# Altium schematic symbol library mainboard.SchLib: 73 symbols
Pins are listed as number, name and electrical type; pins without a type are passive.

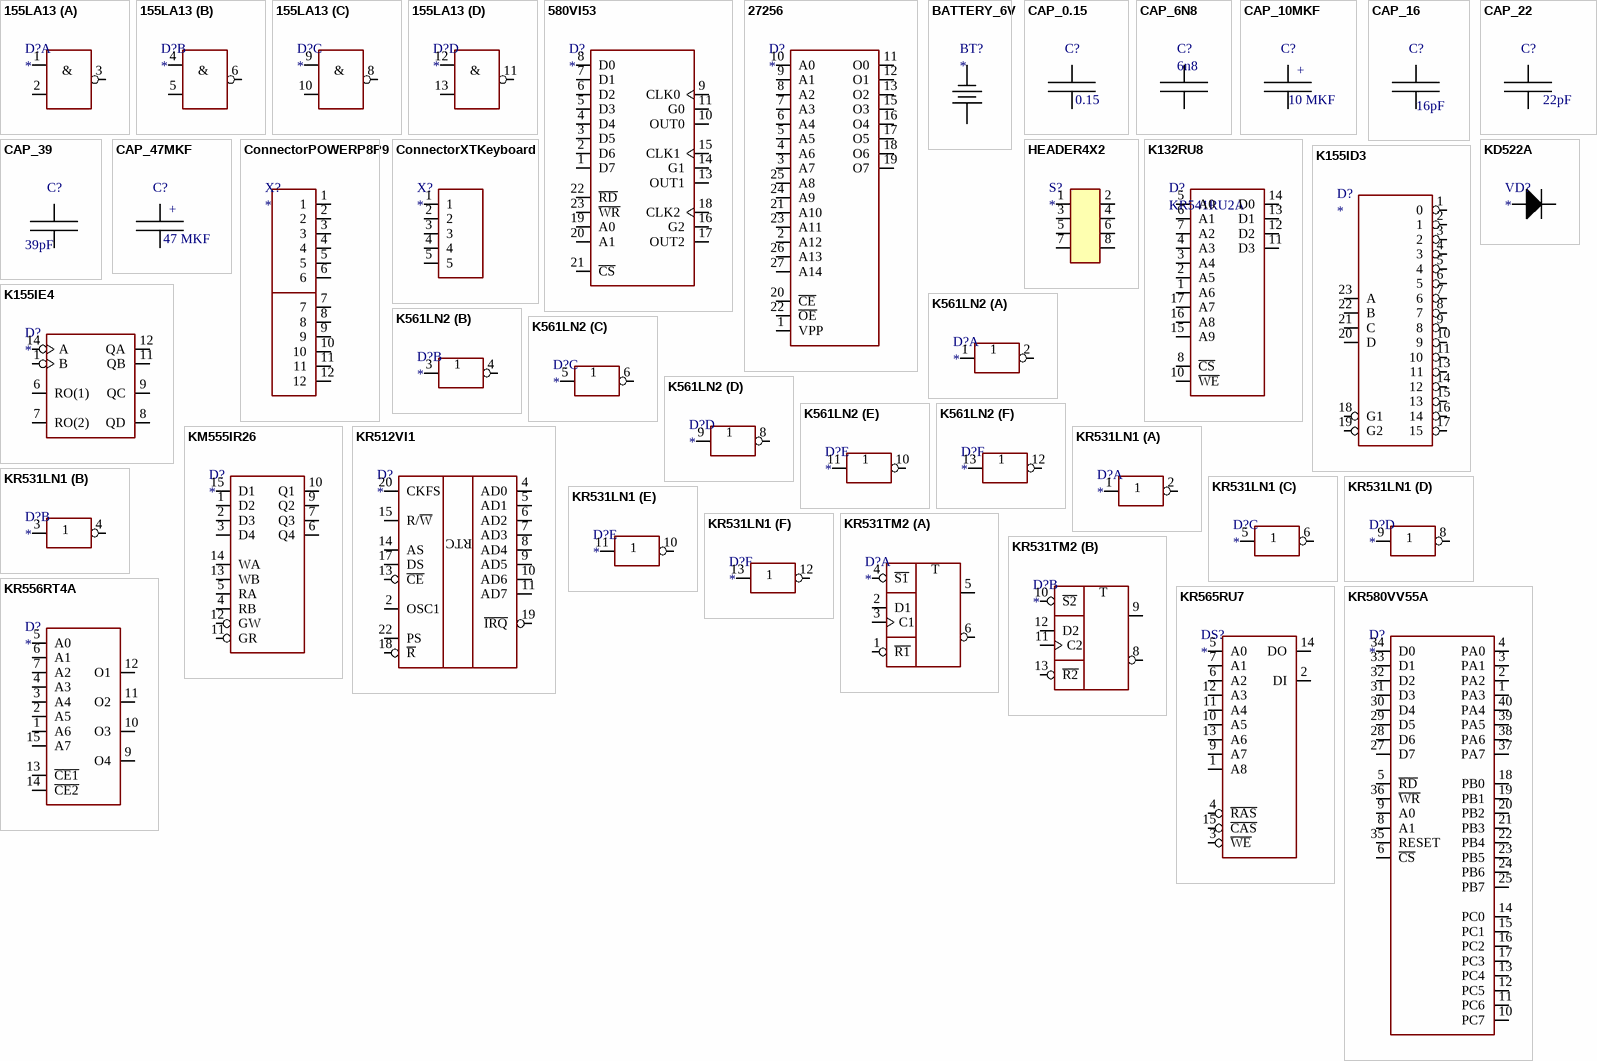
[diagram p0: symbols 155LA13 to KR580VV55A]

## 155LA13
designator D?
footprint DIP14
pins on every part: 7 hidden to GND, 14 hidden to VCC
part A pins: 1, 2, 3
part B pins: 4, 5, 6
part C pins: 8, 9, 10
part D pins: 11, 12, 13
part A text: &
part B text: &
part C text: &
part D text: &

## 580VI53
designator D?
footprint DIP24
pins: 1 D7, 2 D6, 3 D5, 4 D4, 5 D3, 6 D2, 7 D1, 8 D0, 9 CLK0, 10 OUT0, 11 G0, 12 hidden to GND, 13 OUT1, 14 G1, 15 CLK1, 16 G2, 17 OUT2, 18 CLK2, 19 A0, 20 A1, 21 ~{CS}, 22 ~{RD}, 23 ~{WR}, 24 hidden to VCC

## 27256
designator D?
footprint DIP28
pins: 1 VPP, 2 A12, 3 A7, 4 A6, 5 A5, 6 A4, 7 A3, 8 A2, 9 A1, 10 A0, 11 O0, 12 O1, 13 O2, 14 hidden to GND, 15 O3, 16 O4, 17 O5, 18 O6, 19 O7, 20 ~{CE}, 21 A10, 22 ~{OE}, 23 A11, 24 A9, 25 A8, 26 A13, 27 A14, 28 hidden to VCC

## BATTERY_6V
designator BT?
footprint BATTERY_6V
pins: 1 +, 2 -

## CAP_0.15
designator C?  value 0.15  (hidden comment: *)
footprint Cap_5mm
pins: 1, 2

## CAP_6N8
designator C?, comment 6n8
footprint CAP_2.5MM
pins: 1, 2

## CAP_10MKF
designator C?  value 10 MKF  (hidden comment: *)
footprint CAP_20MM_P
pins: 1, 2
text: +

## CAP_16
designator C?, comment 16pF
value: 16pF
footprint Cap_5mm
pins: 1, 2

## CAP_22
designator C?, comment 22pF
value: 22pF
footprint CAP_2.5MM
pins: 1, 2

## CAP_39
designator C?  value 39pF  (hidden comment: *)
footprint CAP_2.5MM
pins: 1, 2

## CAP_47MKF
designator C?  value 47 MKF  (hidden comment: *)
footprint CAP_25MM_P
pins: 1, 2
text: +

## ConnectorPOWERP8P9
designator X?
footprint P8P9_12A
pins: 1, 2, 3, 4, 5, 6, 7, 8, 9, 10, 11, 12

## ConnectorXTKeyboard
designator X?
footprint DN-5J
pins: 1, 2, 3, 4, 5

## HEADER4X2
designator S?
footprint HEADER4X2
pins: 1, 2, 3, 4, 5, 6, 7, 8

## K132RU8
designator D?, comment KR541RU2A
footprint DIP18
pins: 1 A6, 2 A5, 3 A4, 4 A3, 5 A0, 6 A1, 7 A2, 8 ~{CS}, 9 hidden to GND, 10 ~{WE}, 11 D3, 12 D2, 13 D1, 14 D0, 15 A9, 16 A8, 17 A7, 18 hidden to VCC

## K155ID3
designator D?
footprint DIP24
pins: 1 0, 2 1, 3 2, 4 3, 5 4, 6 5, 7 6, 8 7, 9 8, 10 9, 11 10, 12 hidden to GND, 13 11, 14 12, 15 13, 16 14, 17 15, 18 G1, 19 G2, 20 D, 21 C, 22 B, 23 A, 24 hidden to VCC

## K155IE4
designator D?
footprint DIP14
pins: 1 B, 5 hidden to VCC, 6 RO(1), 7 RO(2), 8 QD, 9 QC, 10 hidden to GND, 11 QB, 12 QA, 14 A

## K561LN2
designator D?
footprint DIP14
pins on every part: 7 hidden to GND, 14 hidden to VCC
part A pins: 1, 2
part B pins: 3, 4
part C pins: 5, 6
part D pins: 8, 9
part E pins: 10, 11
part F pins: 12, 13

## KD522A
designator VD?
footprint DIOD_12.5
pins: A, K

## KM555IR26
designator D?
footprint DIP16
pins: 1 D2, 2 D3, 3 D4, 4 RB, 5 RA, 6 Q4, 7 Q3, 8 hidden to GND, 9 Q2, 10 Q1, 11 GR, 12 GW, 13 WB, 14 WA, 15 D1, 16 hidden to VCC

## KR512VI1
designator D?
footprint DIP24
pins: 2 OSC1, 4 AD0, 5 AD1, 6 AD2, 7 AD3, 8 AD4, 9 AD5, 10 AD6, 11 AD7, 12 VSS hidden to GND, 13 ~{CE}, 14 AS, 15 R/~{W}, 17 DS, 18 ~{R}, 19 ~{IRQ}, 20 CKFS, 22 PS, 24 VDD hidden to VCC
text: RTC

## KR531LN1
designator D?
footprint DIP14
pins on every part: 7 hidden to GND, 14 hidden to VCC
part A pins: 1, 2
part B pins: 3, 4
part C pins: 5, 6
part D pins: 8, 9
part E pins: 10, 11
part F pins: 12, 13

## KR531TM2
designator D?
footprint DIP14
pins on every part: 7 hidden to GND, 14 hidden to VCC
part A pins: 1 ~{R1}, 2 D1, 3 C1, 4 ~{S1}, 5 Q1, 6 ~{Q1}
part B pins: 8 ~{Q2}, 9 Q2, 10 ~{S2}, 11 C2, 12 D2, 13 ~{R2}
part A text: T
part B text: T

## KR556RT4A
designator D?
footprint DIP16
pins: 1 A6, 2 A5, 3 A4, 4 A3, 5 A0, 6 A1, 7 A2, 8 hidden to GND, 9 O4, 10 O3, 11 O2, 12 O1, 13 ~{CE1}, 14 ~{CE2}, 15 A7, 16 hidden to VCC

## KR565RU7
designator DS?
footprint DIP16
pins: 1 A8, 2 DI, 3 ~{WE}, 4 ~{RAS}, 5 A0, 6 A2, 7 A1, 8 hidden to VCC, 9 A7, 10 A5, 11 A4, 12 A3, 13 A6, 14 DO, 15 ~{CAS}, 16 hidden to GND

## KR580VV55A
designator D?
footprint DIP40
pins: 1 PA3, 2 PA2, 3 PA1, 4 PA0, 5 ~{RD}, 6 ~{CS}, 7 hidden to GND, 8 A1, 9 A0, 10 PC7, 11 PC6, 12 PC5, 13 PC4, 14 PC0, 15 PC1, 16 PC2, 17 PC3, 18 PB0, 19 PB1, 20 PB2, 21 PB3, 22 PB4, 23 PB5, 24 PB6, 25 PB7, 26 hidden to VCC, 27 D7, 28 D6, 29 D5, 30 D4, 31 D3, 32 D2, 33 D1, 34 D0, 35 RESET, 36 ~{WR}, 37 PA7, 38 PA6, 39 PA5, 40 PA4

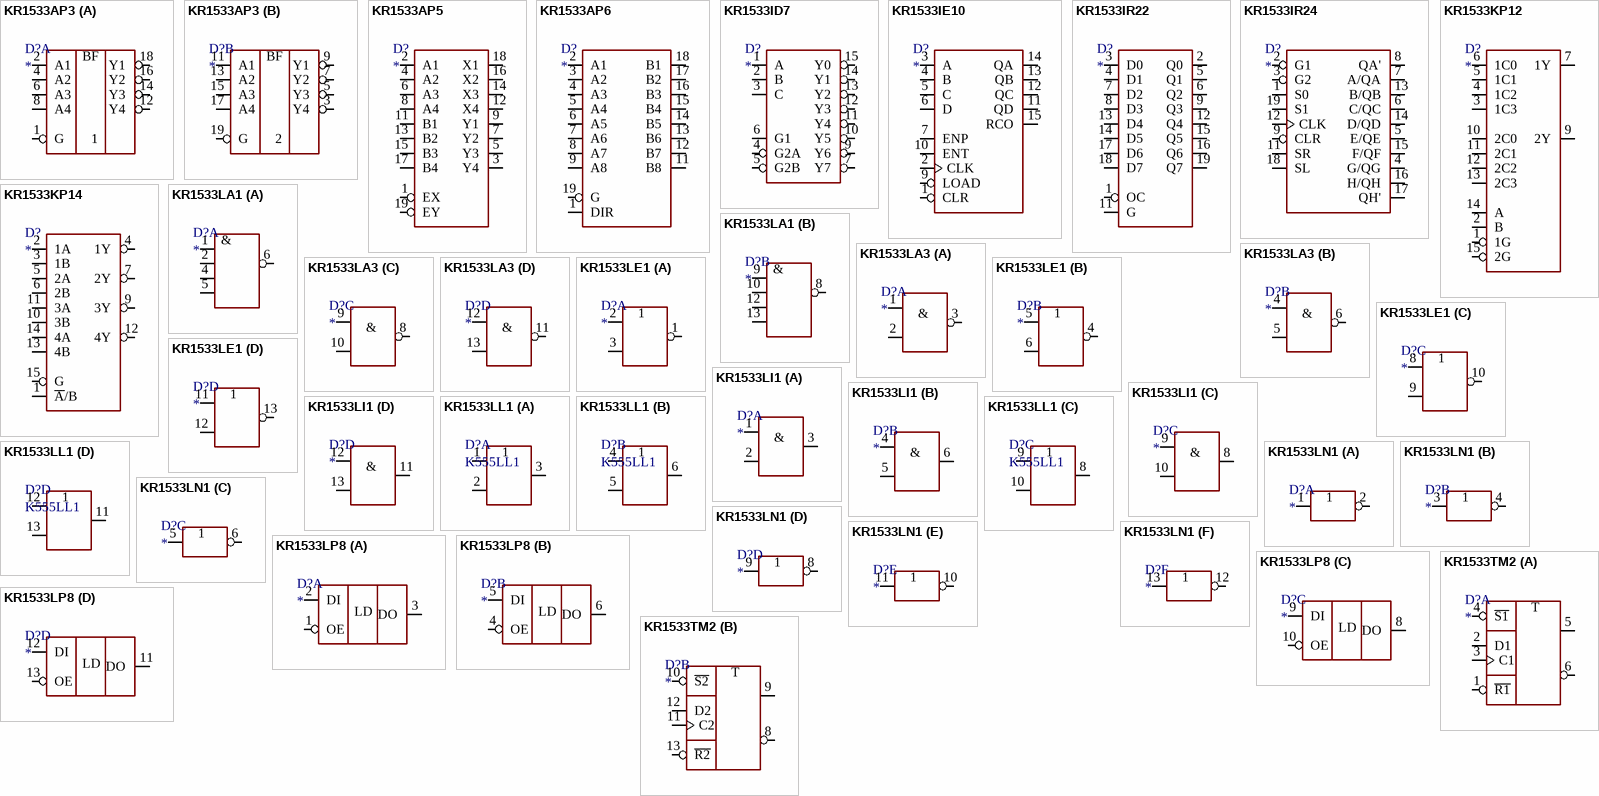
[diagram p1: symbols KR1533AP3 to KR1533TM2]

## KR1533AP3
designator D?
footprint DIP20
pins on every part: 10 hidden to GND, 20 hidden to VCC
part A pins: 1 G, 2 A1, 4 A2, 6 A3, 8 A4, 12 Y4, 14 Y3, 16 Y2, 18 Y1
part B pins: 3 Y4, 5 Y3, 7 Y2, 9 Y1, 11 A1, 13 A2, 15 A3, 17 A4, 19 G
part A text: BF
part B text: BF

## KR1533AP5
designator D?
footprint DIP20
pins: 1 EX, 2 A1, 3 Y4, 4 A2, 5 Y3, 6 A3, 7 Y2, 8 A4, 9 Y1, 10 hidden to GND, 11 B1, 12 X4, 13 B2, 14 X3, 15 B3, 16 X2, 17 B4, 18 X1, 19 EY, 20 hidden to VCC

## KR1533AP6
designator D?
footprint DIP20
pins: 1 DIR, 2 A1, 3 A2, 4 A3, 5 A4, 6 A5, 7 A6, 8 A7, 9 A8, 10 hidden to GND, 11 B8, 12 B7, 13 B6, 14 B5, 15 B4, 16 B3, 17 B2, 18 B1, 19 G, 20 hidden to VCC

## KR1533ID7
designator D?
footprint DIP16
pins: 1 A, 2 B, 3 C, 4 G2A, 5 G2B, 6 G1, 7 Y7, 8 hidden to GND, 9 Y6, 10 Y5, 11 Y4, 12 Y3, 13 Y2, 14 Y1, 15 Y0, 16 hidden to VCC

## KR1533IE10
designator D?
footprint DIP16
pins: 1 CLR, 2 CLK, 3 A, 4 B, 5 C, 6 D, 7 ENP, 8 hidden to GND, 9 LOAD, 10 ENT, 11 QD, 12 QC, 13 QB, 14 QA, 15 RCO, 16 hidden to VCC

## KR1533IR22
designator D?
footprint DIP20
pins: 1 OC, 2 Q0, 3 D0, 4 D1, 5 Q1, 6 Q2, 7 D2, 8 D3, 9 Q3, 10 hidden to GND, 11 G, 12 Q4, 13 D4, 14 D5, 15 Q5, 16 Q6, 17 D6, 18 D7, 19 Q7, 20 hidden to VCC

## KR1533IR24
designator D?
footprint DIP20
pins: 1 S0, 2 G1, 3 G2, 4 G/QG, 5 E/QE, 6 C/QC, 7 A/QA, 8 QA', 9 CLR, 10 hidden to GND, 11 SR, 12 CLK, 13 B/QB, 14 D/QD, 15 F/QF, 16 H/QH, 17 QH', 18 SL, 19 S1, 20 hidden to VCC

## KR1533KP12
designator D?
footprint DIP16
pins: 1 1G, 2 B, 3 1C3, 4 1C2, 5 1C1, 6 1C0, 7 1Y, 8 hidden to GND, 9 2Y, 10 2C0, 11 2C1, 12 2C2, 13 2C3, 14 A, 15 2G, 16 hidden to VCC

## KR1533KP14
designator D?
footprint DIP16
pins: 1 ~{A}/B, 2 1A, 3 1B, 4 1Y, 5 2A, 6 2B, 7 2Y, 8 hidden to GND, 9 3Y, 10 3B, 11 3A, 12 4Y, 13 4B, 14 4A, 15 G, 16 hidden to VCC

## KR1533LA1
designator D?
footprint DIP14
pins on every part: 7 hidden to GND, 14 hidden to VCC
part A pins: 1, 2, 4, 5, 6
part B pins: 8, 9, 10, 12, 13
part A text: &
part B text: &

## KR1533LA3
designator D?
footprint DIP14
pins on every part: 7 hidden to GND, 14 hidden to VCC
part A pins: 1, 2, 3
part B pins: 4, 5, 6
part C pins: 8, 9, 10
part D pins: 11, 12, 13
part A text: &
part B text: &
part C text: &
part D text: &

## KR1533LE1
designator D?
footprint DIP14
pins on every part: 7 hidden to GND, 14 hidden to VCC
part A pins: 1, 2, 3
part B pins: 4, 5, 6
part C pins: 8, 9, 10
part D pins: 11, 12, 13

## KR1533LI1
designator D?
footprint DIP14
pins on every part: 7 hidden to GND, 14 hidden to VCC
part A pins: 1, 2, 3
part B pins: 4, 5, 6
part C pins: 8, 9, 10
part D pins: 11, 12, 13
part A text: &
part B text: &
part C text: &
part D text: &

## KR1533LL1
designator D?, comment K555LL1
footprint DIP14
pins on every part: 7 hidden to GND, 14 hidden to VCC
part A pins: 1, 2, 3
part B pins: 4, 5, 6
part C pins: 8, 9, 10
part D pins: 11, 12, 13

## KR1533LN1
designator D?
footprint DIP14
pins on every part: 7 hidden to GND, 14 hidden to VCC
part A pins: 1, 2
part B pins: 3, 4
part C pins: 5, 6
part D pins: 8, 9
part E pins: 10, 11
part F pins: 12, 13

## KR1533LP8
designator D?
footprint DIP14
pins on every part: 7 hidden to GND, 14 hidden to VCC
part A pins: 1 OE, 2 DI, 3 DO
part B pins: 4 OE, 5 DI, 6 DO
part C pins: 8 DO, 9 DI, 10 OE
part D pins: 11 DO, 12 DI, 13 OE
part A text: LD
part B text: LD
part C text: LD
part D text: LD

## KR1533TM2
designator D?
footprint DIP14
pins on every part: 7 hidden to GND, 14 hidden to VCC
part A pins: 1 ~{R1}, 2 D1, 3 C1, 4 ~{S1}, 5 Q1, 6 ~{Q1}
part B pins: 8 ~{Q2}, 9 Q2, 10 ~{S2}, 11 C2, 12 D2, 13 ~{R2}
part A text: T
part B text: T

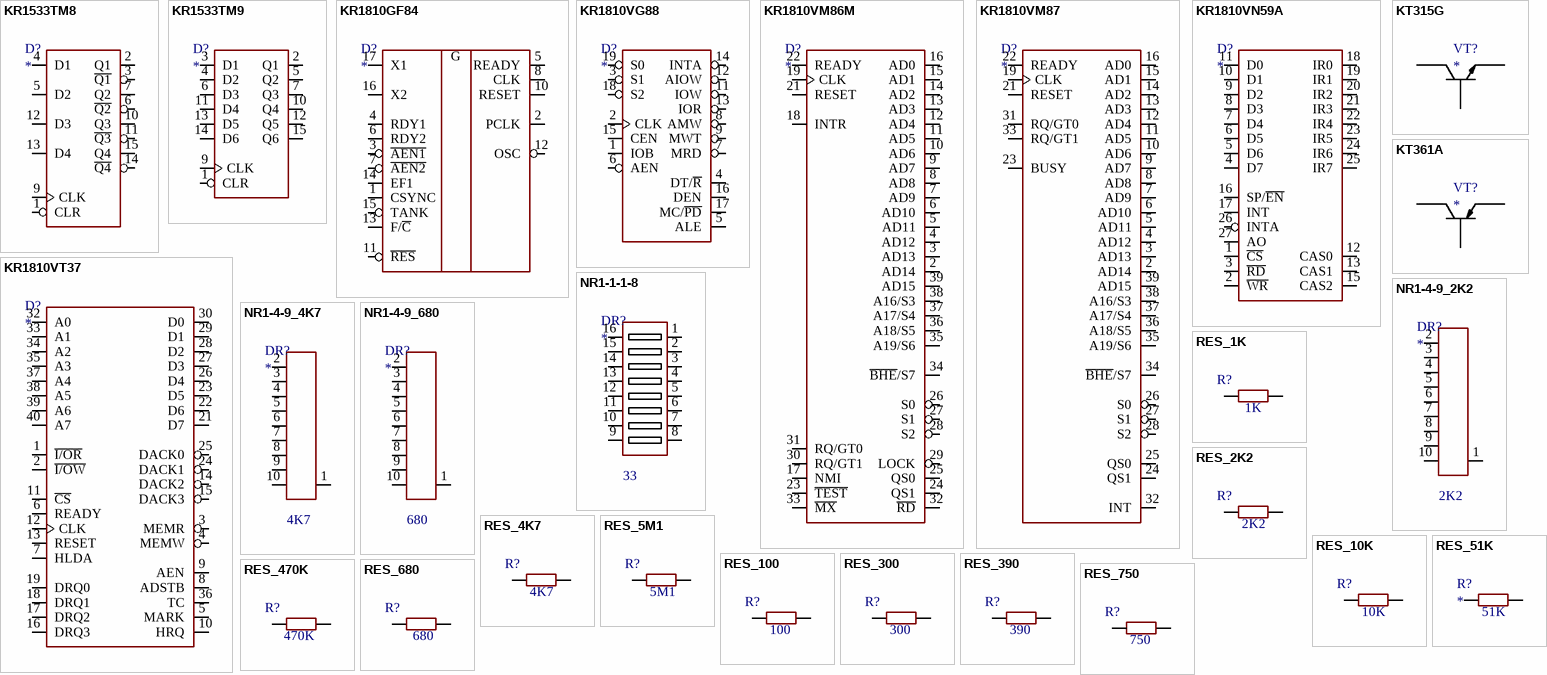
[diagram p2: symbols KR1533TM8 to RES_750]

## KR1533TM8
designator D?
footprint DIP16
pins: 1 CLR, 2 Q1, 3 ~{Q1}, 4 D1, 5 D2, 6 ~{Q2}, 7 Q2, 8 hidden to GND, 9 CLK, 10 Q3, 11 ~{Q3}, 12 D3, 13 D4, 14 ~{Q4}, 15 Q4, 16 hidden to VCC

## KR1533TM9
designator D?
footprint DIP16
pins: 1 CLR, 2 Q1, 3 D1, 4 D2, 5 Q2, 6 D3, 7 Q3, 8 hidden to GND, 9 CLK, 10 Q4, 11 D4, 12 Q5, 13 D5, 14 D6, 15 Q6, 16 hidden to VCC

## KR1810GF84
designator D?
footprint DIP18
pins: 1 CSYNC, 2 PCLK, 3 ~{AEN1}, 4 RDY1, 5 READY, 6 RDY2, 7 ~{AEN2}, 8 CLK, 9 hidden to GND, 10 RESET, 11 ~{RES}, 12 OSC, 13 F/~{C}, 14 EF1, 15 TANK, 16 X2, 17 X1, 18 hidden to VCC
text: G

## KR1810VG88
designator D?
footprint DIP20
pins: 1 IOB, 2 CLK, 3 S1, 4 DT/~{R}, 5 ALE, 6 AEN, 7 MRD, 8 AMW, 9 MWT, 10 hidden to GND, 11 IOW, 12 AIOW, 13 IOR, 14 INTA, 15 CEN, 16 DEN, 17 MC/~{PD}, 18 S2, 19 S0, 20 hidden to VCC

## KR1810VM86M
designator D?
footprint DIP40
pins: 1 hidden to GND, 2 AD14, 3 AD13, 4 AD12, 5 AD11, 6 AD10, 7 AD9, 8 AD8, 9 AD7, 10 AD6, 11 AD5, 12 AD4, 13 AD3, 14 AD2, 15 AD1, 16 AD0, 17 NMI, 18 INTR, 19 CLK, 20 hidden to GND, 21 RESET, 22 READY, 23 ~{TEST}, 24 QS1, 25 QS0, 26 S0, 27 S1, 28 S2, 29 LOCK, 30 RQ/GT1, 31 RQ/GT0, 32 ~{RD}, 33 ~{MX}, 34 ~{BHE}/S7, 35 A19/S6, 36 A18/S5, 37 A17/S4, 38 A16/S3, 39 AD15, 40 hidden to VCC

## KR1810VM87
designator D?
footprint DIP40
pins: 1 hidden to GND, 2 AD14, 3 AD13, 4 AD12, 5 AD11, 6 AD10, 7 AD9, 8 AD8, 9 AD7, 10 AD6, 11 AD5, 12 AD4, 13 AD3, 14 AD2, 15 AD1, 16 AD0, 19 CLK, 20 hidden to GND, 21 RESET, 22 READY, 23 BUSY, 24 QS1, 25 QS0, 26 S0, 27 S1, 28 S2, 31 RQ/GT0, 32 INT, 33 RQ/GT1, 34 ~{BHE}/S7, 35 A19/S6, 36 A18/S5, 37 A17/S4, 38 A16/S3, 39 AD15, 40 hidden to VCC

## KR1810VN59A
designator D?
footprint DIP28
pins: 1 ~{CS}, 2 ~{WR}, 3 ~{RD}, 4 D7, 5 D6, 6 D5, 7 D4, 8 D3, 9 D2, 10 D1, 11 D0, 12 CAS0, 13 CAS1, 14 hidden to GND, 15 CAS2, 16 SP/~{EN}, 17 INT, 18 IR0, 19 IR1, 20 IR2, 21 IR3, 22 IR4, 23 IR5, 24 IR6, 25 IR7, 26 INTA, 27 AO, 28 hidden to VCC

## KR1810VT37
designator D?
footprint DIP40
pins: 1 ~{I/OR}, 2 ~{I/OW}, 3 MEMR, 4 MEMW, 5 MARK, 6 READY, 7 HLDA, 8 ADSTB, 9 AEN, 10 HRQ, 11 ~{CS}, 12 CLK, 13 RESET, 14 DACK2, 15 DACK3, 16 DRQ3, 17 DRQ2, 18 DRQ1, 19 DRQ0, 20 hidden to GND, 21 D7, 22 D6, 23 D5, 24 DACK1, 25 DACK0, 26 D4, 27 D3, 28 D2, 29 D1, 30 D0, 31 hidden to VCC, 32 A0, 33 A1, 34 A2, 35 A3, 36 TC, 37 A4, 38 A5, 39 A6, 40 A7

## KT315G
designator VT?
footprint TRANS
pins: B, C, E

## KT361A
designator VT?
footprint TRANS
pins: B, C, E

## NR1-1-1-8
designator DR?  value 33
footprint DIP16
pins: 1, 2, 3, 4, 5, 6, 7, 8, 9, 10, 11, 12, 13, 14, 15, 16

## NR1-4-9_2K2
designator DR?  value 2K2
footprint NR1-4-9ENG
pins: 1, 2, 3, 4, 5, 6, 7, 8, 9, 10

## NR1-4-9_4K7
designator DR?  value 4K7
footprint NR1-4-9
footprint NR1-4-9ENG
pins: 1, 2, 3, 4, 5, 6, 7, 8, 9, 10

## NR1-4-9_680
designator DR?  value 680
footprint NR1-4-9
footprint NR1-4-9ENG
pins: 1, 2, 3, 4, 5, 6, 7, 8, 9, 10

## RES_1K
designator R?  value 1K  (hidden comment: *)
footprint RES_10MM
pins: 1, 2

## RES_2K2
designator R?  value 2K2  (hidden comment: *)
footprint RES_10MM
pins: 1, 2

## RES_4K7
designator R?  value 4K7  (hidden comment: *)
footprint RES_10MM
pins: 1, 2

## RES_5M1
designator R?  value 5M1  (hidden comment: *)
footprint RES_12.5MM
pins: 1, 2

## RES_10K
designator R?  value 10K  (hidden comment: *)
footprint RES_10MM
pins: 1, 2

## RES_51K
designator R?  value 51K
footprint RES_10MM
pins: 1, 2

## RES_100
designator R?  value 100  (hidden comment: *)
footprint RES_10MM
pins: 1, 2

## RES_300
designator R?  value 300  (hidden comment: *)
footprint RES_10MM
pins: 1, 2

## RES_390
designator R?  value 390  (hidden comment: *)
footprint RES_10MM
pins: 1, 2

## RES_470K
designator R?  value 470K  (hidden comment: *)
footprint RES_10MM
pins: 1, 2

## RES_680
designator R?  value 680  (hidden comment: *)
footprint RES_10MM
pins: 1, 2

## RES_750
designator R?  value 750  (hidden comment: *)
footprint RES_10MM
pins: 1, 2

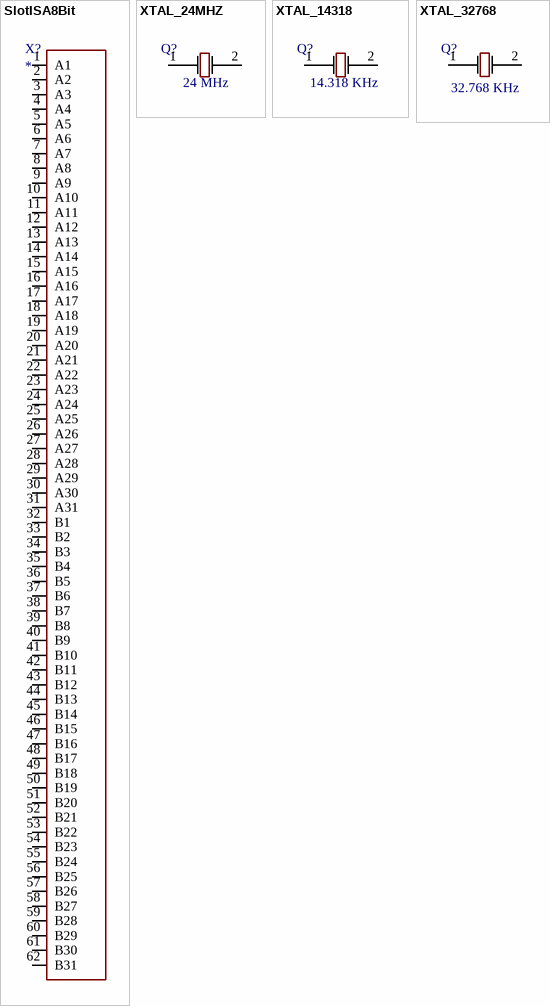
[diagram p3: symbols SlotISA8Bit to XTAL_32768]

## SlotISA8Bit
designator X?
footprint ISA8bit
pins: 1 A1, 2 A2, 3 A3, 4 A4, 5 A5, 6 A6, 7 A7, 8 A8, 9 A9, 10 A10, 11 A11, 12 A12, 13 A13, 14 A14, 15 A15, 16 A16, 17 A17, 18 A18, 19 A19, 20 A20, 21 A21, 22 A22, 23 A23, 24 A24, 25 A25, 26 A26, 27 A27, 28 A28, 29 A29, 30 A30, 31 A31, 32 B1, 33 B2, 34 B3, 35 B4, 36 B5, 37 B6, 38 B7, 39 B8, 40 B9, 41 B10, 42 B11, 43 B12, 44 B13, 45 B14, 46 B15, 47 B16, 48 B17, 49 B18, 50 B19, 51 B20, 52 B21, 53 B22, 54 B23, 55 B24, 56 B25, 57 B26, 58 B27, 59 B28, 60 B29, 61 B30, 62 B31

## XTAL_24MHZ
designator Q?  value 24 MHz  (hidden comment: *)
footprint XTAL_24MHZ
pins: 1 OSC1, 2 OSC2

## XTAL_14318
designator Q?  value 14.318 KHz  (hidden comment: *)
footprint XTAL_24MHZ
pins: 1 OSC1, 2 OSC2

## XTAL_32768
designator Q?  value 32.768 KHz  (hidden comment: *)
footprint XTAL32768
pins: 1 OSC1, 2 OSC2